# EAGLE library part LSM9DS0 (library Trevor-lab4)
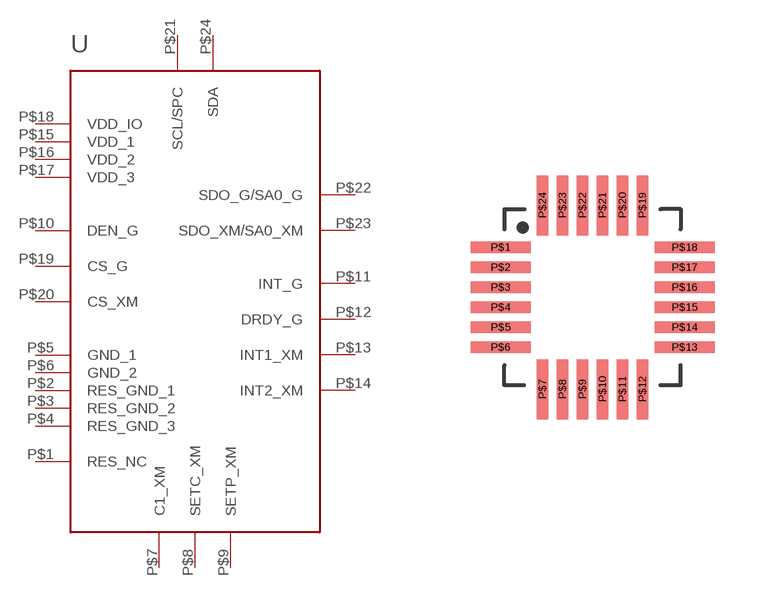
[diagram p0: symbol with the pads of LGA-24; footprint LGA-24]

Designator prefix U

## LSM9DS0-LGA24 (CREATOR: Trevor Smith; DIST: Digikey; DISTPN: 497-13902-1-ND)  [LGA-24]
P$1  RES_NC  nc
P$2  RES_GND_1  pwr
P$3  RES_GND_2  pwr
P$4  RES_GND_3  pwr
P$5  GND_1  pwr
P$6  GND_2  pwr
P$7  C1_XM  pas
P$8  SETC_XM  pas
P$9  SETP_XM  pas
P$10  DEN_G  in
P$11  INT_G  out
P$12  DRDY_G  out
P$13  INT1_XM  out
P$14  INT2_XM  out
P$15  VDD_1  pwr
P$16  VDD_2  pwr
P$17  VDD_3  pwr
P$18  VDD_IO  pwr
P$19  CS_G  in
P$20  CS_XM  in
P$21  SCL/SPC
P$22  SDO_G/SA0_G
P$23  SDO_XM/SA0_XM
P$24  SDA

## Footprint LGA-24 (pad centres in mm)
smd 1.5 x 0.28: P$1 -2.3,1.25; P$2 -2.3,0.75; P$3 -2.3,0.25; P$4 -2.3,-0.25; P$5 -2.3,-0.75; P$6 -2.3,-1.25; P$13 2.3,-1.25; P$14 2.3,-0.75; P$15 2.3,-0.25; P$16 2.3,0.25; P$17 2.3,0.75; P$18 2.3,1.25
smd 0.28 x 1.5: P$7 -1.25,-2.3; P$8 -0.75,-2.3; P$9 -0.25,-2.3; P$10 0.25,-2.3; P$11 0.75,-2.3; P$12 1.25,-2.3; P$19 1.25,2.3; P$20 0.75,2.3; P$21 0.25,2.3; P$22 -0.25,2.3; P$23 -0.75,2.3; P$24 -1.25,2.3